# Altium footprint library USB.PcbLib: 2 footprints
Each footprint in its own frame and in the unit in brackets; x right, y up, seen from the top. Pads: shape width x height; smd on the part's side, far side on the other; paste and mask are expansions set on the pad; w line width, h text height; cw(c..) or ccw(c..) is an arc to the next point about the centre after c.
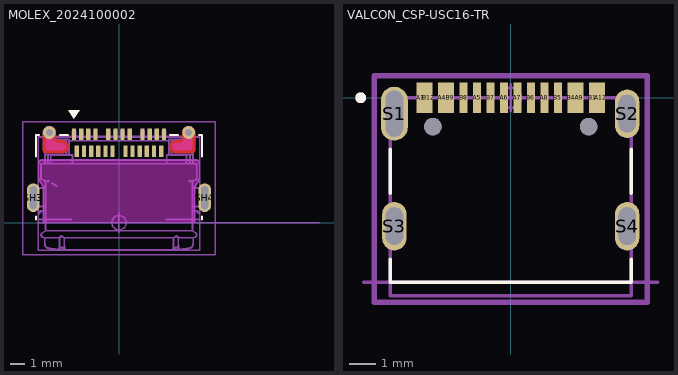
[diagram p0: the footprints below, top view; thin cyan lines are the x and y axes]

## MOLEX_2024100002 [mm] "PTH L-shaped Slot 1.4 +/- 0.05 X 1.5 +/- 0.05 / PTH Slot 1.6 +/- 0.05 X 0.5 +/- 0.05"
height 4.3
pads (28):
  rect 0.298x0.8 smd mask+0.064: A1(-3.15,6.19) A2(-2.65,6.19) A3(-2.15,6.19) A4(-1.65,6.19) A5(-0.75,6.19) A6(-0.25,6.19) A7(0.25,6.19) A8(0.75,6.19) A9(1.65,6.19) A10(2.15,6.19) A11(2.65,6.19) A12(3.15,6.19) B1(2.95,4.99) B2(2.45,4.99) B3(1.95,4.99) B4(1.45,4.99) B5(0.95,4.99) B6(0.45,4.99) B7(-0.45,4.99) B8(-0.95,4.99) B9(-1.45,4.99) B10(-1.95,4.99) B11(-2.45,4.99) B12(-2.95,4.99)
  round 0.9 hole 0.5 mask+0: SH1(-4.875,6.31) SH2(4.875,6.31)
  oval 0.9x2 hole 0.5 slot 1.6 at 90 deg mask+0.064: SH3(-6,1.75) SH4(6,1.75)
Top Layer:
  region: 4.922,6.758 4.969,6.75 5.014,6.738 5.058,6.721 5.1,6.7 5.14,6.674 5.176,6.644 5.209,6.611 5.239,6.575 5.265,6.535 5.286,6.493 5.303,6.449 5.315,6.404 5.323,6.357 5.325,6.31 5.325,5.11 5.325,5.097 5.324,5.084 5.322,5.071 5.32,5.058 5.316,5.045 5.313,5.033 5.308,5.02 5.303,5.008 5.298,4.997 5.292,4.985 5.285,4.974 5.277,4.963 5.269,4.953 5.261,4.943 5.252,4.933 5.242,4.924 5.232,4.916 5.222,4.908 5.211,4.9 5.2,4.893 5.188,4.887 5.177,4.882 5.165,4.877 5.152,4.872 5.14,4.869 5.127,4.865 5.114,4.863 5.101,4.861 5.088,4.86 3.975,4.86 3.928,4.862 3.881,4.87 3.836,4.882 3.792,4.899 3.75,4.92 3.71,4.946 3.674,4.976 3.641,5.009 3.611,5.045 3.585,5.085 3.564,5.127 3.547,5.171 3.535,5.216 3.527,5.263 3.525,5.31 3.527,5.357 3.535,5.404 3.547,5.449 3.564,5.493 3.585,5.535 3.611,5.575 3.641,5.611 3.674,5.644 3.71,5.674 3.75,5.7 3.792,5.721 3.836,5.738 3.881,5.75 3.928,5.758 3.975,5.76 4.141,5.76 4.156,5.762 4.172,5.764 4.187,5.767 4.203,5.77 4.218,5.775 4.233,5.78 4.247,5.786 4.261,5.793 4.275,5.8 4.288,5.808 4.301,5.817 4.314,5.827 4.326,5.837 4.337,5.848 4.348,5.859 4.358,5.871 4.368,5.884 4.377,5.897 4.385,5.91 4.392,5.924 4.399,5.938 4.405,5.952 4.41,5.967 4.415,5.982 4.418,5.998 4.421,6.013 4.423,6.029 4.425,6.044 4.425,6.06 4.425,6.31 4.427,6.357 4.435,6.404 4.447,6.449 4.464,6.493 4.485,6.535 4.511,6.575 4.541,6.611 4.574,6.644 4.61,6.674 4.65,6.7 4.692,6.721 4.736,6.738 4.781,6.75 4.828,6.758 4.875,6.76
  region: -4.828,6.758 -4.781,6.75 -4.736,6.738 -4.692,6.721 -4.65,6.7 -4.61,6.674 -4.574,6.644 -4.541,6.611 -4.511,6.575 -4.485,6.535 -4.464,6.493 -4.447,6.449 -4.435,6.404 -4.427,6.357 -4.425,6.31 -4.425,6.06 -4.425,6.044 -4.423,6.029 -4.421,6.013 -4.418,5.998 -4.415,5.982 -4.41,5.967 -4.405,5.952 -4.399,5.938 -4.392,5.924 -4.385,5.91 -4.377,5.897 -4.368,5.884 -4.358,5.871 -4.348,5.859 -4.337,5.848 -4.326,5.837 -4.314,5.827 -4.301,5.817 -4.288,5.808 -4.275,5.8 -4.261,5.793 -4.247,5.786 -4.233,5.78 -4.218,5.775 -4.203,5.77 -4.187,5.767 -4.172,5.764 -4.156,5.762 -4.141,5.76 -3.975,5.76 -3.928,5.758 -3.881,5.75 -3.836,5.738 -3.792,5.721 -3.75,5.7 -3.71,5.674 -3.674,5.644 -3.641,5.611 -3.611,5.575 -3.585,5.535 -3.564,5.493 -3.547,5.449 -3.535,5.404 -3.527,5.357 -3.525,5.31 -3.527,5.263 -3.535,5.216 -3.547,5.171 -3.564,5.127 -3.585,5.085 -3.611,5.045 -3.641,5.009 -3.674,4.976 -3.71,4.946 -3.75,4.92 -3.792,4.899 -3.836,4.882 -3.881,4.87 -3.928,4.862 -3.975,4.86 -5.088,4.86 -5.101,4.861 -5.114,4.863 -5.127,4.865 -5.14,4.869 -5.152,4.872 -5.165,4.877 -5.177,4.882 -5.188,4.887 -5.2,4.893 -5.211,4.9 -5.222,4.908 -5.232,4.916 -5.242,4.924 -5.252,4.933 -5.261,4.943 -5.269,4.953 -5.277,4.963 -5.285,4.974 -5.292,4.985 -5.298,4.997 -5.303,5.008 -5.308,5.02 -5.313,5.033 -5.316,5.045 -5.32,5.058 -5.322,5.071 -5.324,5.084 -5.325,5.097 -5.325,5.11 -5.325,6.31 -5.323,6.357 -5.315,6.404 -5.303,6.449 -5.286,6.493 -5.265,6.535 -5.239,6.575 -5.209,6.611 -5.176,6.644 -5.14,6.674 -5.1,6.7 -5.058,6.721 -5.014,6.738 -4.969,6.75 -4.922,6.758 -4.875,6.76
Bottom Layer:
  region: 4.922,6.758 4.969,6.75 5.014,6.738 5.058,6.721 5.1,6.7 5.14,6.674 5.176,6.644 5.209,6.611 5.239,6.575 5.265,6.535 5.286,6.493 5.303,6.449 5.315,6.404 5.323,6.357 5.325,6.31 5.325,5.11 5.325,5.097 5.324,5.084 5.322,5.071 5.32,5.058 5.316,5.045 5.313,5.033 5.308,5.02 5.303,5.008 5.298,4.997 5.292,4.985 5.285,4.974 5.277,4.963 5.269,4.953 5.261,4.943 5.252,4.933 5.242,4.924 5.232,4.916 5.222,4.908 5.211,4.9 5.2,4.893 5.188,4.887 5.177,4.882 5.165,4.877 5.152,4.872 5.14,4.869 5.127,4.865 5.114,4.863 5.101,4.861 5.088,4.86 3.975,4.86 3.928,4.862 3.881,4.87 3.836,4.882 3.792,4.899 3.75,4.92 3.71,4.946 3.674,4.976 3.641,5.009 3.611,5.045 3.585,5.085 3.564,5.127 3.547,5.171 3.535,5.216 3.527,5.263 3.525,5.31 3.527,5.357 3.535,5.404 3.547,5.449 3.564,5.493 3.585,5.535 3.611,5.575 3.641,5.611 3.674,5.644 3.71,5.674 3.75,5.7 3.792,5.721 3.836,5.738 3.881,5.75 3.928,5.758 3.975,5.76 4.141,5.76 4.156,5.762 4.172,5.764 4.187,5.767 4.203,5.77 4.218,5.775 4.233,5.78 4.247,5.786 4.261,5.793 4.275,5.8 4.288,5.808 4.301,5.817 4.314,5.827 4.326,5.837 4.337,5.848 4.348,5.859 4.358,5.871 4.368,5.884 4.377,5.897 4.385,5.91 4.392,5.924 4.399,5.938 4.405,5.952 4.41,5.967 4.415,5.982 4.418,5.998 4.421,6.013 4.423,6.029 4.425,6.044 4.425,6.06 4.425,6.31 4.427,6.357 4.435,6.404 4.447,6.449 4.464,6.493 4.485,6.535 4.511,6.575 4.541,6.611 4.574,6.644 4.61,6.674 4.65,6.7 4.692,6.721 4.736,6.738 4.781,6.75 4.828,6.758 4.875,6.76
  region: -4.828,6.758 -4.781,6.75 -4.736,6.738 -4.692,6.721 -4.65,6.7 -4.61,6.674 -4.574,6.644 -4.541,6.611 -4.511,6.575 -4.485,6.535 -4.464,6.493 -4.447,6.449 -4.435,6.404 -4.427,6.357 -4.425,6.31 -4.425,6.06 -4.425,6.044 -4.423,6.029 -4.421,6.013 -4.418,5.998 -4.415,5.982 -4.41,5.967 -4.405,5.952 -4.399,5.938 -4.392,5.924 -4.385,5.91 -4.377,5.897 -4.368,5.884 -4.358,5.871 -4.348,5.859 -4.337,5.848 -4.326,5.837 -4.314,5.827 -4.301,5.817 -4.288,5.808 -4.275,5.8 -4.261,5.793 -4.247,5.786 -4.233,5.78 -4.218,5.775 -4.203,5.77 -4.187,5.767 -4.172,5.764 -4.156,5.762 -4.141,5.76 -3.975,5.76 -3.928,5.758 -3.881,5.75 -3.836,5.738 -3.792,5.721 -3.75,5.7 -3.71,5.674 -3.674,5.644 -3.641,5.611 -3.611,5.575 -3.585,5.535 -3.564,5.493 -3.547,5.449 -3.535,5.404 -3.527,5.357 -3.525,5.31 -3.527,5.263 -3.535,5.216 -3.547,5.171 -3.564,5.127 -3.585,5.085 -3.611,5.045 -3.641,5.009 -3.674,4.976 -3.71,4.946 -3.75,4.92 -3.792,4.899 -3.836,4.882 -3.881,4.87 -3.928,4.862 -3.975,4.86 -5.088,4.86 -5.101,4.861 -5.114,4.863 -5.127,4.865 -5.14,4.869 -5.152,4.872 -5.165,4.877 -5.177,4.882 -5.188,4.887 -5.2,4.893 -5.211,4.9 -5.222,4.908 -5.232,4.916 -5.242,4.924 -5.252,4.933 -5.261,4.943 -5.269,4.953 -5.277,4.963 -5.285,4.974 -5.292,4.985 -5.298,4.997 -5.303,5.008 -5.308,5.02 -5.313,5.033 -5.316,5.045 -5.32,5.058 -5.322,5.071 -5.324,5.084 -5.325,5.097 -5.325,5.11 -5.325,6.31 -5.323,6.357 -5.315,6.404 -5.303,6.449 -5.286,6.493 -5.265,6.535 -5.239,6.575 -5.209,6.611 -5.176,6.644 -5.14,6.674 -5.1,6.7 -5.058,6.721 -5.014,6.738 -4.969,6.75 -4.922,6.758 -4.875,6.76
Top Overlay:
  region: -2.751,7.882 -3.551,7.882 -3.151,7.282
  lines w0.15: -5.8,0.225 -5.8,0.425 ; -5.8,4.625 -5.8,6.15 -5.619,6.15 ; -4.136,6.15 -3.585,6.15 ; 3.588,6.15 4.136,6.15 ; 5.619,6.15 5.8,6.15 5.8,4.625 ; 5.8,0.225 5.8,0.425
Top Solder:
  drawing of 2 lines, arcs and shapes, not listed
Bottom Solder:
  drawing of 2 lines, arcs and shapes, not listed
Keep-Out Layer:
  board cut-out: -5.339,2.559 -5.611,3.041 -5.612,3.043 -5.622,3.06 -5.636,3.095 -5.645,3.132 -5.65,3.17 -5.65,3.189 -5.65,4.1 -5.65,4.16 -5.604,4.27 -5.52,4.354 -5.41,4.4 -5.35,4.4 5.35,4.4 5.41,4.4 5.52,4.354 5.604,4.27 5.65,4.16 5.65,4.1 5.65,3.189 5.65,3.17 5.645,3.132 5.636,3.095 5.622,3.06 5.612,3.043 5.611,3.041 5.339,2.559 5.338,2.557 5.329,2.54 5.315,2.505 5.305,2.468 5.301,2.43 5.3,2.411 5.3,0 -5.3,0 -5.3,2.411 -5.301,2.43 -5.305,2.468 -5.315,2.505 -5.329,2.54 -5.338,2.557
  board cut-out: 3.975,5.06 3.925,5.06 3.833,5.098 3.763,5.168 3.725,5.26 3.725,5.36 3.763,5.452 3.833,5.522 3.925,5.56 3.975,5.56 4.125,5.56 4.223,5.57 4.403,5.644 4.541,5.782 4.615,5.962 4.625,6.06 4.625,6.31 4.625,6.36 4.663,6.452 4.733,6.522 4.825,6.56 4.925,6.56 5.017,6.522 5.087,6.452 5.125,6.36 5.125,6.31 5.125,5.31 5.125,5.26 5.087,5.168 5.017,5.098 4.925,5.06 4.875,5.06
  board cut-out: -4.875,5.06 -4.925,5.06 -5.017,5.098 -5.087,5.168 -5.125,5.26 -5.125,5.31 -5.125,6.31 -5.125,6.36 -5.087,6.452 -5.017,6.522 -4.925,6.56 -4.825,6.56 -4.733,6.522 -4.663,6.452 -4.625,6.36 -4.625,6.31 -4.625,6.06 -4.615,5.962 -4.541,5.782 -4.403,5.644 -4.223,5.57 -4.125,5.56 -3.975,5.56 -3.925,5.56 -3.833,5.522 -3.763,5.452 -3.725,5.36 -3.725,5.26 -3.763,5.168 -3.833,5.098 -3.925,5.06 -3.975,5.06
Board:
  lines w0: -5.125,5.31 ccw(c-4.875,5.31) -4.875,5.06 -3.975,5.06 ccw(c-3.975,5.31) -3.975,5.56 -4.125,5.56 cw(c-4.125,6.06) -4.625,6.06 -4.625,6.31 ccw(c-4.875,6.31) -5.125,6.31 -5.125,5.31 ; 3.975,5.06 cw(c3.975,5.31) 3.975,5.56 4.125,5.56 ccw(c4.125,6.06) 4.625,6.06 4.625,6.31 cw(c4.875,6.31) 5.125,6.31 5.125,5.31 cw(c4.875,5.31) 4.875,5.06 3.975,5.06
Top Assembly:
  drawing of 7529 lines, arcs and shapes, not listed
Bottom Assembly:
  lines w0.13: -5.612,3.043 cw(c-5.35,3.189) -5.65,3.189 -5.65,4.1 cw(c-5.35,4.1) -5.35,4.4 5.35,4.4 cw(c5.35,4.1) 5.65,4.1 5.65,3.189 cw(c5.35,3.189) 5.612,3.043 ; -5.611,3.041 -5.339,2.559 ; -5.338,2.557 cw(c-5.6,2.411) -5.3,2.411 -5.3,0 ; 5.338,2.557 ccw(c5.6,2.411) 5.3,2.411 5.3,0 ; 5.339,2.559 5.611,3.041 ; 14,0 5.65,0 ; -5.65,0 -5.3,0 ; -5.65,0 -5.65,6 5.65,6 5.65,0 ; -5.65,0 -5.65,-1.93 5.65,-1.93 5.65,0 ; -5.3,0 5.3,0 ; 5.3,0 5.65,0
  text "BOARD CUT OUT" at 0,2.2 h0.13
  text "PCB Edge" at 7,0.25 h1
Top Designator:
  text ".Designator" at 1.341,2.439 h1.52
Top Component Outline:
  lines w0.1: -6.75,-2.23 -6.75,7.06 6.75,7.06 6.75,-2.23 -6.75,-2.23
Top Component Center:
  circle w0.1: c0,0 r0.5
  lines w0.1: -0.686,0 0.711,0 ; -0.001,-0.706 -0.001,0.691
3D body "2024100002.stp": height 2.55, standoff -1.75, extent -6.104,-1.905 6.096,6.443

## VALCON_CSP-USC16-TR [mm]
pads (22):
  rect 0.3x1.14 smd: A1(-3.35,0) A4(-2.55,0) A5(-1.25,0) A6(-0.25,0) A7(0.25,0) A8(1.25,0) A9(2.55,0) A12(3.35,0) B1(3.05,0) B4(2.25,0) B5(1.75,0) B6(0.75,0) B7(-0.75,0) B8(-1.75,0) B9(-2.25,0) B12(-3.05,0)
  oval 1x2 hole 0.65 slot 1.72 at 90 deg: S1(-4.325,-0.59)
  oval 0.9x1.8 hole 0.65 slot 1.4 at 90 deg: S2(4.325,-0.59) S3(-4.325,-4.77) S4(4.325,-4.77)
  round 0.65 hole 0.65 unplated: ""(-2.89,-1.07) ""(2.89,-1.07)
Top Overlay:
  circle w0.2: c-5.575,0 r0.1
  lines w0.127: -4.47,-6 -4.47,-6.86 4.47,-6.86 4.47,-6 ; -4.47,-3.55 -4.47,-1.91 ; 4.47,-3.55 4.47,-1.91
Board:
  lines w0: 4,-0.093 cw(c4.335,-0.075) 4.317,0.26 cw(c4.335,-0.055) 4.65,-0.038 ; 4,-0.09 4,-1.14 ccw(c4.31,-1.13) 4.321,-1.44 ; 4.318,-1.44 ccw(c4.335,-1.125) 4.65,-1.142 ; 4.65,-1.14 4.65,-0.04
Top Assembly:
  lines w0.127: -5.47,-6.86 5.47,-6.86 ; -4.47,-7.35 -4.47,0 4.47,0 4.47,-7.35 -4.47,-7.35
BOAS 13:
  circle w0.2: c-5.575,0 r0.1
Top Component Outline:
  circle w0.1: c0,0 r0.375
  lines w0.1: -0.5,0 0.5,0 ; 0,-0.5 0,0.5
  lines w0.2: -5.075,-7.6 -5.075,0.82 5.075,0.82 5.075,-7.6 -5.075,-7.6
3D body "step_temp.STEP": height 3.26, standoff -1, extent -4.47,-7.296 4.47,0.454